# Altium integrated library TI Power Management Standard Voltage Regulator.IntLib: 214 symbols (part 3 of 7)
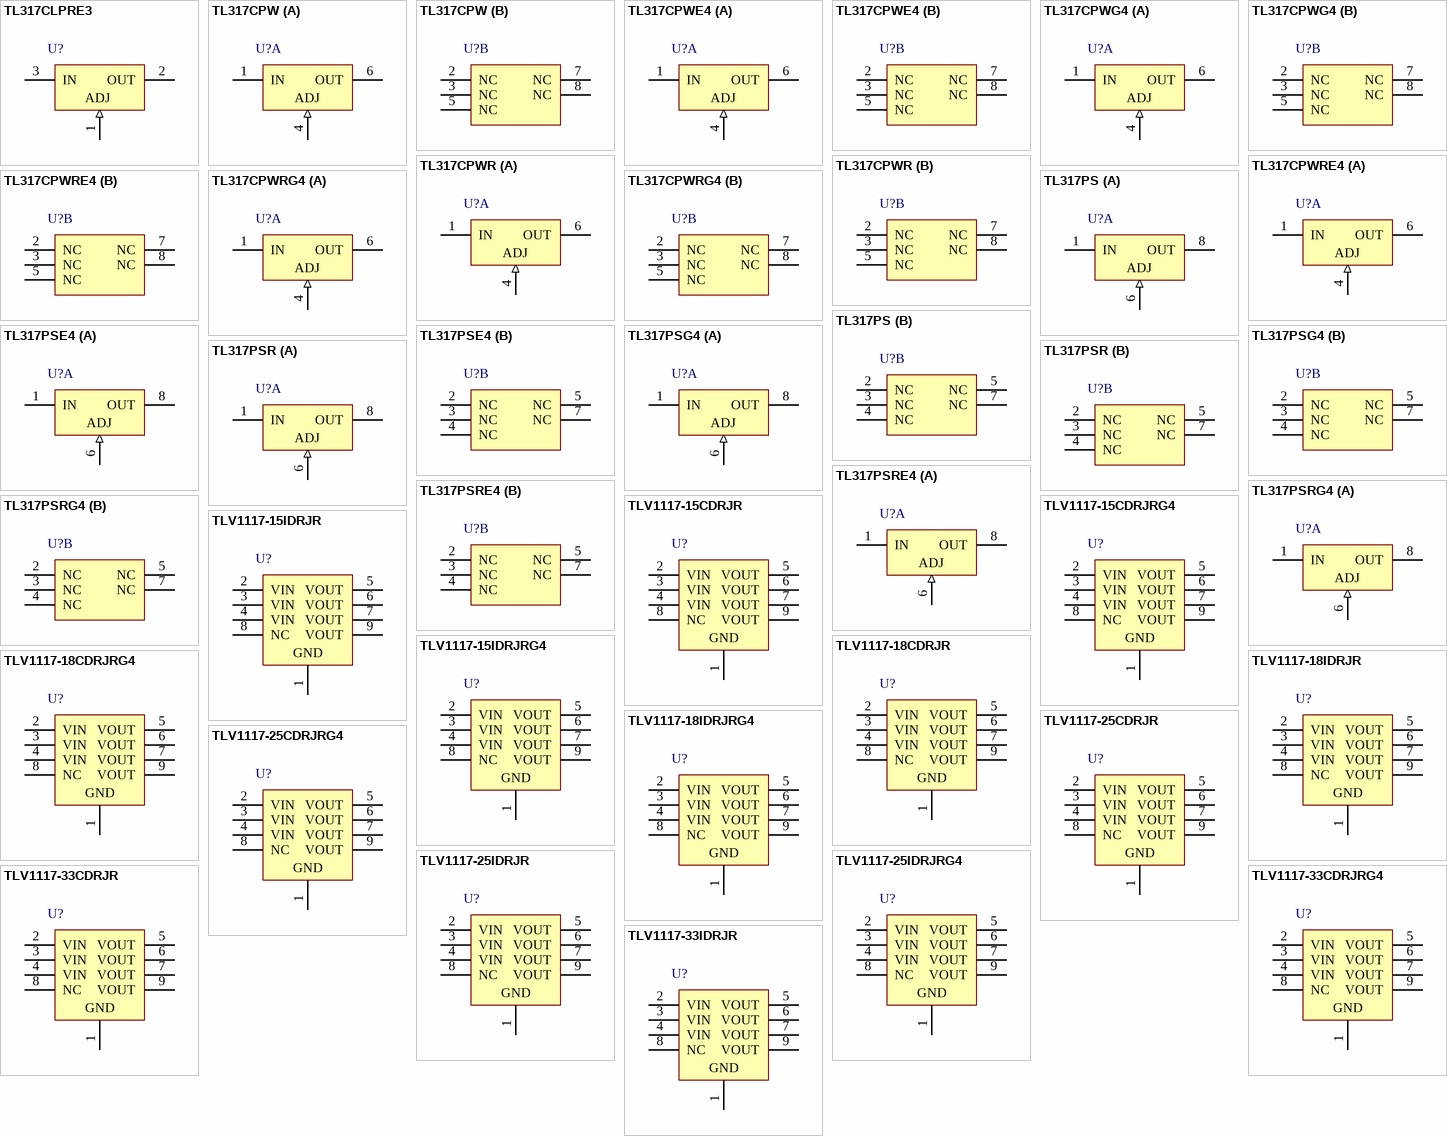
[diagram p8: symbols TL317CLPRE3 to TLV1117-33IDRJR]

## TL317CLPRE3
designator U?
Adjustable Regulator with 5 to 38 V Input and 1.2 to 32 V Output, 0 to 125 degC, 3-Pin TO-92 (LP), Pb-Free (RoHS); Manufacturer: Texas Instruments; PartNumber: TL317CLPRE3; Iout(Max)(A): 0.1; SubFamily: Single Channel LDO; Vin(Max)(V): 38; Vin(Min)(V): 5; Vout(Max)(V): 32; Vout(Min)(V): 1.2; DatasheetVersion: SLVS004H; PackageVersion: revC, Oct-2001; PackageReference: LP3; PackageDescription: Plastic Cylindrical Package, Formed Lead Option (TO-92); Supplier 1: Digi-Key; Supplier Part Number 1: TL317CLPRE3-ND; Supplier 2: Newark; Supplier Part Number 2: 70K5571; Supplier 3: Mouser; Supplier Part Number 3: 595-TL317CLPRE3; Eco-Plan: Pb-Free (RoHS); Mounting Technology: Through Hole; Code_JEDEC: TO-226-AA; ComponentLink1Description: Datasheet; ComponentLink1URL: http://www.ti.com/general/docs/lit/getliterature.tsp?genericPartNumber=TL317&fileType=pdf; ComponentLink2Description: Package Specification; ComponentLink2URL: http://www.ti.com/litv/pdf/msot002a; ComponentLink3Description: URL Link1; ComponentLink3URL: Samples URL:http://www.ti.com/product/tl317#samples
footprint LP3 (TO, Flat Index; 3 In-Line, Formed Axial Leads; Body Dia. 4.8mm; Leads 0.56 x 0.41 mm (max))
pins: 1 GND (in), 2 OUT (power), 3 IN (power)
text: ADJ

## TL317CPW
designator U?
Adjustable Regulator with 5 to 38 V Input and 1.2 to 32 V Output, 0 to 125 degC, 8-Pin TSSOP (PW), Green (RoHS & no Sb/Br); Manufacturer: Texas Instruments; PartNumber: TL317CPW; Iout(Max)(A): 0.1; SubFamily: Single Channel LDO; Vin(Max)(V): 38; Vin(Min)(V): 5; Vout(Max)(V): 32; Vout(Min)(V): 1.2; DatasheetVersion: SLVS004H; PackageVersion: revG, Feb-2011; PackageReference: PW8; PackageDescription: 8-Pin Plastic Thin Small Outline Package 3 x 4.4 mm Body ,0.65 mm Pitch; Supplier 1: Digi-Key; Supplier Part Number 1: TL317CPW-ND; Supplier 2: Newark; Supplier Part Number 2: 02H5502; Supplier 3: Mouser; Supplier Part Number 3: 595-TL317CPW; Eco-Plan: Green (RoHS & no Sb/Br); Mounting Technology: Surface Mount; Code_JEDEC: MO-153; ComponentLink1Description: Datasheet; ComponentLink1URL: http://www.ti.com/general/docs/lit/getliterature.tsp?genericPartNumber=TL317&fileType=pdf; ComponentLink2Description: Package Specification; ComponentLink2URL: http://www.ti.com/litv/pdf/mtss001d; ComponentLink3Description: URL Link1; ComponentLink3URL: Samples URL:http://www.ti.com/product/tl317#samples
footprint PW8_N (TSOP, 8-Leads, Body 3x4.4mm, Pitch 0.65mm, IPC Medium Density)
footprint PW8_L (TSOP, 8-Leads, Body 3x4.4mm, Pitch 0.65mm, IPC High Density)
footprint PW8_M (TSOP, 8-Leads, Body 3x4.4mm, Pitch 0.65mm, IPC Low Density)
part A pins: 1 IN (power), 4 ADJ (in), 6 OUT (power)
part B pins: 2 NC, 3 NC, 5 NC, 7 NC, 8 NC

## TL317CPWE4
designator U?
Adjustable Regulator with 5 to 38 V Input and 1.2 to 32 V Output, 0 to 125 degC, 8-Pin TSSOP (PW), Green (RoHS & no Sb/Br); Manufacturer: Texas Instruments; PartNumber: TL317CPWE4; Iout(Max)(A): 0.1; SubFamily: Single Channel LDO; Vin(Max)(V): 38; Vin(Min)(V): 5; Vout(Max)(V): 32; Vout(Min)(V): 1.2; DatasheetVersion: SLVS004H; PackageVersion: revG, Feb-2011; PackageReference: PW8; PackageDescription: 8-Pin Plastic Thin Small Outline Package 3 x 4.4 mm Body ,0.65 mm Pitch; Supplier 1: Digi-Key; Supplier Part Number 1: TL317CPWE4-ND; Supplier 2: Newark; Supplier Part Number 2: 33K7452; Supplier 3: Mouser; Supplier Part Number 3: 595-TL317CPWE4; Eco-Plan: Green (RoHS & no Sb/Br); Mounting Technology: Surface Mount; Code_JEDEC: MO-153; ComponentLink1Description: Datasheet; ComponentLink1URL: http://www.ti.com/general/docs/lit/getliterature.tsp?genericPartNumber=TL317&fileType=pdf; ComponentLink2Description: Package Specification; ComponentLink2URL: http://www.ti.com/litv/pdf/mtss001d; ComponentLink3Description: URL Link1; ComponentLink3URL: Samples URL:http://www.ti.com/product/tl317#samples
footprint PW8_N (TSOP, 8-Leads, Body 3x4.4mm, Pitch 0.65mm, IPC Medium Density)
footprint PW8_L (TSOP, 8-Leads, Body 3x4.4mm, Pitch 0.65mm, IPC High Density)
footprint PW8_M (TSOP, 8-Leads, Body 3x4.4mm, Pitch 0.65mm, IPC Low Density)
part A pins: 1 IN (power), 4 ADJ (in), 6 OUT (power)
part B pins: 2 NC, 3 NC, 5 NC, 7 NC, 8 NC

## TL317CPWG4
designator U?
Adjustable Regulator with 5 to 38 V Input and 1.2 to 32 V Output, 0 to 125 degC, 8-Pin TSSOP (PW), Green (RoHS & no Sb/Br); Manufacturer: Texas Instruments; PartNumber: TL317CPWG4; Iout(Max)(A): 0.1; SubFamily: Single Channel LDO; Vin(Max)(V): 38; Vin(Min)(V): 5; Vout(Max)(V): 32; Vout(Min)(V): 1.2; DatasheetVersion: SLVS004H; PackageVersion: revG, Feb-2011; PackageReference: PW8; PackageDescription: 8-Pin Plastic Thin Small Outline Package 3 x 4.4 mm Body ,0.65 mm Pitch; Supplier 1: Digi-Key; Supplier Part Number 1: TL317CPWG4-ND; Supplier 2: Newark; Supplier Part Number 2: 46M9109; Supplier 3: Mouser; Supplier Part Number 3: 595-TL317CPWG4; Eco-Plan: Green (RoHS & no Sb/Br); Mounting Technology: Surface Mount; Code_JEDEC: MO-153; ComponentLink1Description: Datasheet; ComponentLink1URL: http://www.ti.com/general/docs/lit/getliterature.tsp?genericPartNumber=TL317&fileType=pdf; ComponentLink2Description: Package Specification; ComponentLink2URL: http://www.ti.com/litv/pdf/mtss001d; ComponentLink3Description: URL Link1; ComponentLink3URL: Samples URL:http://www.ti.com/product/tl317#samples
footprint PW8_N (TSOP, 8-Leads, Body 3x4.4mm, Pitch 0.65mm, IPC Medium Density)
footprint PW8_L (TSOP, 8-Leads, Body 3x4.4mm, Pitch 0.65mm, IPC High Density)
footprint PW8_M (TSOP, 8-Leads, Body 3x4.4mm, Pitch 0.65mm, IPC Low Density)
part A pins: 1 IN (power), 4 ADJ (in), 6 OUT (power)
part B pins: 2 NC, 3 NC, 5 NC, 7 NC, 8 NC

## TL317CPWR
designator U?
Adjustable Regulator with 5 to 38 V Input and 1.2 to 32 V Output, 0 to 125 degC, 8-Pin TSSOP (PW), Green (RoHS & no Sb/Br); Manufacturer: Texas Instruments; PartNumber: TL317CPWR; Iout(Max)(A): 0.1; SubFamily: Single Channel LDO; Vin(Max)(V): 38; Vin(Min)(V): 5; Vout(Max)(V): 32; Vout(Min)(V): 1.2; DatasheetVersion: SLVS004H; PackageVersion: revG, Feb-2011; PackageReference: PW8; PackageDescription: 8-Pin Plastic Thin Small Outline Package 3 x 4.4 mm Body ,0.65 mm Pitch; Supplier 1: Digi-Key; Supplier Part Number 1: 296-13351-2-ND; Supplier 2: Digi-Key; Supplier Part Number 2: 296-13351-1-ND; Supplier 3: Digi-Key; Supplier Part Number 3: 296-13351-6-ND; Supplier 4: Newark; Supplier Part Number 4: 76C9224; Supplier 5: Mouser; Supplier Part Number 5: 595-TL317CPWR; Eco-Plan: Green (RoHS & no Sb/Br); Mounting Technology: Surface Mount; Code_JEDEC: MO-153; ComponentLink1Description: Datasheet; ComponentLink1URL: http://www.ti.com/general/docs/lit/getliterature.tsp?genericPartNumber=TL317&fileType=pdf; ComponentLink2Description: Package Specification; ComponentLink2URL: http://www.ti.com/litv/pdf/mtss001d; ComponentLink3Description: URL Link1; ComponentLink3URL: Samples URL:http://www.ti.com/product/tl317#samples
footprint PW8_N (TSOP, 8-Leads, Body 3x4.4mm, Pitch 0.65mm, IPC Medium Density)
footprint PW8_L (TSOP, 8-Leads, Body 3x4.4mm, Pitch 0.65mm, IPC High Density)
footprint PW8_M (TSOP, 8-Leads, Body 3x4.4mm, Pitch 0.65mm, IPC Low Density)
part A pins: 1 IN (power), 4 ADJ (in), 6 OUT (power)
part B pins: 2 NC, 3 NC, 5 NC, 7 NC, 8 NC

## TL317CPWRE4
designator U?
Adjustable Regulator with 5 to 38 V Input and 1.2 to 32 V Output, 0 to 125 degC, 8-Pin TSSOP (PW), Green (RoHS & no Sb/Br); Manufacturer: Texas Instruments; PartNumber: TL317CPWRE4; Iout(Max)(A): 0.1; SubFamily: Single Channel LDO; Vin(Max)(V): 38; Vin(Min)(V): 5; Vout(Max)(V): 32; Vout(Min)(V): 1.2; DatasheetVersion: SLVS004H; PackageVersion: revG, Feb-2011; PackageReference: PW8; PackageDescription: 8-Pin Plastic Thin Small Outline Package 3 x 4.4 mm Body ,0.65 mm Pitch; Supplier 1: Digi-Key; Supplier Part Number 1: TL317CPWRE4-ND; Supplier 2: Newark; Supplier Part Number 2: 33K7453; Supplier 3: Mouser; Supplier Part Number 3: 595-TL317CPWRE4; Eco-Plan: Green (RoHS & no Sb/Br); Mounting Technology: Surface Mount; Code_JEDEC: MO-153; ComponentLink1Description: Datasheet; ComponentLink1URL: http://www.ti.com/general/docs/lit/getliterature.tsp?genericPartNumber=TL317&fileType=pdf; ComponentLink2Description: Package Specification; ComponentLink2URL: http://www.ti.com/litv/pdf/mtss001d; ComponentLink3Description: URL Link1; ComponentLink3URL: Samples URL:http://www.ti.com/product/tl317#samples
footprint PW8_N (TSOP, 8-Leads, Body 3x4.4mm, Pitch 0.65mm, IPC Medium Density)
footprint PW8_L (TSOP, 8-Leads, Body 3x4.4mm, Pitch 0.65mm, IPC High Density)
footprint PW8_M (TSOP, 8-Leads, Body 3x4.4mm, Pitch 0.65mm, IPC Low Density)
part A pins: 1 IN (power), 4 ADJ (in), 6 OUT (power)
part B pins: 2 NC, 3 NC, 5 NC, 7 NC, 8 NC

## TL317CPWRG4
designator U?
Adjustable Regulator with 5 to 38 V Input and 1.2 to 32 V Output, 0 to 125 degC, 8-Pin TSSOP (PW), Green (RoHS & no Sb/Br); Manufacturer: Texas Instruments; PartNumber: TL317CPWRG4; Iout(Max)(A): 0.1; Vin(Max)(V): 38; Vin(Min)(V): 5; Vout(Max)(V): 32; Vout(Min)(V): 1.2; DatasheetVersion: SLVS004H; PackageVersion: revG, Feb-2011; PackageReference: PW8; PackageDescription: 8-Pin Plastic Thin Small Outline Package 3 x 4.4 mm Body ,0.65 mm Pitch; Supplier 1: Digi-Key; Supplier Part Number 1: TL317CPWRG4-ND; Supplier 2: Newark; Supplier Part Number 2: 46M9110; Supplier 3: Mouser; Supplier Part Number 3: 595-TL317CPWRG4; Eco-Plan: Green (RoHS & no Sb/Br); Mounting Technology: Surface Mount; Code_JEDEC: MO-153; ComponentLink1Description: Datasheet; ComponentLink1URL: http://www.ti.com/general/docs/lit/getliterature.tsp?genericPartNumber=TL317&fileType=pdf; ComponentLink2Description: Package Specification; ComponentLink2URL: http://www.ti.com/litv/pdf/mtss001d; ComponentLink3Description: URL Link1; ComponentLink3URL: Samples URL:http://www.ti.com/product/tl317#samples
footprint PW8_N (TSOP, 8-Leads, Body 3x4.4mm, Pitch 0.65mm, IPC Medium Density)
footprint PW8_L (TSOP, 8-Leads, Body 3x4.4mm, Pitch 0.65mm, IPC High Density)
footprint PW8_M (TSOP, 8-Leads, Body 3x4.4mm, Pitch 0.65mm, IPC Low Density)
part A pins: 1 IN (power), 4 ADJ (in), 6 OUT (power)
part B pins: 2 NC, 3 NC, 5 NC, 7 NC, 8 NC

## TL317PS
designator U?
Adjustable Regulator with 5 to 38 V Input and 1.2 to 32 V Output, 0 to 125 degC, 8-Pin SO (PS), Green (RoHS & no Sb/Br); Manufacturer: Texas Instruments; PartNumber: TL317PS; Iout(Max)(A): 0.1; Vin(Max)(V): 38; Vin(Min)(V): 5; Vout(Max)(V): 32; Vout(Min)(V): 1.2; DatasheetVersion: SLVS004H; PackageVersion: revC, Mar-2003; PackageReference: PS8; PackageDescription: 8-Pin Plastic Small Outline Package, 6.2 x 5.3 mm, Pitch 1.27 mm Pitch; Supplier 1: Digi-Key; Supplier Part Number 1: TL317PS-ND; Supplier 2: Newark; Supplier Part Number 2: 50R8020; Supplier 3: Mouser; Supplier Part Number 3: 595-TL317PS; Eco-Plan: Green (RoHS & no Sb/Br); Mounting Technology: Surface Mount; ComponentLink1Description: Datasheet; ComponentLink1URL: http://www.ti.com/general/docs/lit/getliterature.tsp?genericPartNumber=TL317&fileType=pdf; ComponentLink2Description: Package Specification; ComponentLink2URL: http://www.ti.com/litv/pdf/msop001a; ComponentLink3Description: URL Link1; ComponentLink3URL: Samples URL:http://www.ti.com/product/tl317#samples
footprint PS8_N (SOP, 8-Leads, Body 6.2x5.3mm, Pitch 1.27mm, IPC Medium Density)
footprint PS8_L (SOP, 8-Leads, Body 6.2x5.3mm, Pitch 1.27mm, IPC High Density)
footprint PS8_M (SOP, 8-Leads, Body 6.2x5.3mm, Pitch 1.27mm, IPC Low Density)
part A pins: 1 IN (power), 6 ADJ (in), 8 OUT (power)
part B pins: 2 NC, 3 NC, 4 NC, 5 NC, 7 NC

## TL317PSE4
designator U?
Adjustable Regulator with 5 to 38 V Input and 1.2 to 32 V Output, 0 to 125 degC, 8-Pin SO (PS), Green (RoHS & no Sb/Br); Manufacturer: Texas Instruments; PartNumber: TL317PSE4; Iout(Max)(A): 0.1; Vin(Max)(V): 38; Vin(Min)(V): 5; Vout(Max)(V): 32; Vout(Min)(V): 1.2; DatasheetVersion: SLVS004H; PackageVersion: revC, Mar-2003; PackageReference: PS8; PackageDescription: 8-Pin Plastic Small Outline Package, 6.2 x 5.3 mm, Pitch 1.27 mm Pitch; Supplier 1: Digi-Key; Supplier Part Number 1: TL317PSE4-ND; Supplier 2: Mouser; Supplier Part Number 2: 595-TL317PSE4; Eco-Plan: Green (RoHS & no Sb/Br); Mounting Technology: Surface Mount; ComponentLink1Description: Datasheet; ComponentLink1URL: http://www.ti.com/general/docs/lit/getliterature.tsp?genericPartNumber=TL317&fileType=pdf; ComponentLink2Description: Package Specification; ComponentLink2URL: http://www.ti.com/litv/pdf/msop001a; ComponentLink3Description: URL Link1; ComponentLink3URL: Samples URL:http://www.ti.com/product/tl317#samples
footprint PS8_N (SOP, 8-Leads, Body 6.2x5.3mm, Pitch 1.27mm, IPC Medium Density)
footprint PS8_L (SOP, 8-Leads, Body 6.2x5.3mm, Pitch 1.27mm, IPC High Density)
footprint PS8_M (SOP, 8-Leads, Body 6.2x5.3mm, Pitch 1.27mm, IPC Low Density)
part A pins: 1 IN (power), 6 ADJ (in), 8 OUT (power)
part B pins: 2 NC, 3 NC, 4 NC, 5 NC, 7 NC

## TL317PSG4
designator U?
Adjustable Regulator with 5 to 38 V Input and 1.2 to 32 V Output, 0 to 125 degC, 8-Pin SO (PS), Green (RoHS & no Sb/Br); Manufacturer: Texas Instruments; PartNumber: TL317PSG4; Iout(Max)(A): 0.1; Vin(Max)(V): 38; Vin(Min)(V): 5; Vout(Max)(V): 32; Vout(Min)(V): 1.2; DatasheetVersion: SLVS004H; PackageVersion: revC, Mar-2003; PackageReference: PS8; PackageDescription: 8-Pin Plastic Small Outline Package, 6.2 x 5.3 mm, Pitch 1.27 mm Pitch; Supplier 1: Digi-Key; Supplier Part Number 1: TL317PSG4-ND; Supplier 2: Mouser; Supplier Part Number 2: 595-TL317PSG4; Eco-Plan: Green (RoHS & no Sb/Br); Mounting Technology: Surface Mount; ComponentLink1Description: Datasheet; ComponentLink1URL: http://www.ti.com/general/docs/lit/getliterature.tsp?genericPartNumber=TL317&fileType=pdf; ComponentLink2Description: Package Specification; ComponentLink2URL: http://www.ti.com/litv/pdf/msop001a; ComponentLink3Description: URL Link1; ComponentLink3URL: Samples URL:http://www.ti.com/product/tl317#samples
footprint PS8_N (SOP, 8-Leads, Body 6.2x5.3mm, Pitch 1.27mm, IPC Medium Density)
footprint PS8_L (SOP, 8-Leads, Body 6.2x5.3mm, Pitch 1.27mm, IPC High Density)
footprint PS8_M (SOP, 8-Leads, Body 6.2x5.3mm, Pitch 1.27mm, IPC Low Density)
part A pins: 1 IN (power), 6 ADJ (in), 8 OUT (power)
part B pins: 2 NC, 3 NC, 4 NC, 5 NC, 7 NC

## TL317PSR
designator U?
Adjustable Regulator with 5 to 38 V Input and 1.2 to 32 V Output, 0 to 125 degC, 8-Pin SO (PS), Green (RoHS & no Sb/Br); Manufacturer: Texas Instruments; PartNumber: TL317PSR; Iout(Max)(A): 0.1; Vin(Max)(V): 38; Vin(Min)(V): 5; Vout(Max)(V): 32; Vout(Min)(V): 1.2; DatasheetVersion: SLVS004H; PackageVersion: revC, Mar-2003; PackageReference: PS8; PackageDescription: 8-Pin Plastic Small Outline Package, 6.2 x 5.3 mm, Pitch 1.27 mm Pitch; Supplier 1: Digi-Key; Supplier Part Number 1: 296-29156-2-ND; Supplier 2: Digi-Key; Supplier Part Number 2: 296-29156-1-ND; Supplier 3: Digi-Key; Supplier Part Number 3: 296-29156-6-ND; Supplier 4: Newark; Supplier Part Number 4: 50R8023; Supplier 5: Mouser; Supplier Part Number 5: 595-TL317PSR; Eco-Plan: Green (RoHS & no Sb/Br); Mounting Technology: Surface Mount; ComponentLink1Description: Datasheet; ComponentLink1URL: http://www.ti.com/general/docs/lit/getliterature.tsp?genericPartNumber=TL317&fileType=pdf; ComponentLink2Description: Package Specification; ComponentLink2URL: http://www.ti.com/litv/pdf/msop001a; ComponentLink3Description: URL Link1; ComponentLink3URL: Samples URL:http://www.ti.com/product/tl317#samples
footprint PS8_N (SOP, 8-Leads, Body 6.2x5.3mm, Pitch 1.27mm, IPC Medium Density)
footprint PS8_L (SOP, 8-Leads, Body 6.2x5.3mm, Pitch 1.27mm, IPC High Density)
footprint PS8_M (SOP, 8-Leads, Body 6.2x5.3mm, Pitch 1.27mm, IPC Low Density)
part A pins: 1 IN (power), 6 ADJ (in), 8 OUT (power)
part B pins: 2 NC, 3 NC, 4 NC, 5 NC, 7 NC

## TL317PSRE4
designator U?
Adjustable Regulator with 5 to 38 V Input and 1.2 to 32 V Output, 0 to 125 degC, 8-Pin SO (PS), Green (RoHS & no Sb/Br); Manufacturer: Texas Instruments; PartNumber: TL317PSRE4; Iout(Max)(A): 0.1; Vin(Max)(V): 38; Vin(Min)(V): 5; Vout(Max)(V): 32; Vout(Min)(V): 1.2; DatasheetVersion: SLVS004H; PackageVersion: revC, Mar-2003; PackageReference: PS8; PackageDescription: 8-Pin Plastic Small Outline Package, 6.2 x 5.3 mm, Pitch 1.27 mm Pitch; Supplier 1: Digi-Key; Supplier Part Number 1: TL317PSRE4-ND; Supplier 2: Mouser; Supplier Part Number 2: 595-TL317PSRE4; Eco-Plan: Green (RoHS & no Sb/Br); Mounting Technology: Surface Mount; ComponentLink1Description: Datasheet; ComponentLink1URL: http://www.ti.com/general/docs/lit/getliterature.tsp?genericPartNumber=TL317&fileType=pdf; ComponentLink2Description: Package Specification; ComponentLink2URL: http://www.ti.com/litv/pdf/msop001a; ComponentLink3Description: URL Link1; ComponentLink3URL: Samples URL:http://www.ti.com/product/tl317#samples
footprint PS8_N (SOP, 8-Leads, Body 6.2x5.3mm, Pitch 1.27mm, IPC Medium Density)
footprint PS8_L (SOP, 8-Leads, Body 6.2x5.3mm, Pitch 1.27mm, IPC High Density)
footprint PS8_M (SOP, 8-Leads, Body 6.2x5.3mm, Pitch 1.27mm, IPC Low Density)
part A pins: 1 IN (power), 6 ADJ (in), 8 OUT (power)
part B pins: 2 NC, 3 NC, 4 NC, 5 NC, 7 NC

## TL317PSRG4
designator U?
Adjustable Regulator with 5 to 38 V Input and 1.2 to 32 V Output, 0 to 125 degC, 8-Pin SO (PS), Green (RoHS & no Sb/Br); Manufacturer: Texas Instruments; PartNumber: TL317PSRG4; Iout(Max)(A): 0.1; Vin(Max)(V): 38; Vin(Min)(V): 5; Vout(Max)(V): 32; Vout(Min)(V): 1.2; DatasheetVersion: SLVS004H; PackageVersion: revC, Mar-2003; PackageReference: PS8; PackageDescription: 8-Pin Plastic Small Outline Package, 6.2 x 5.3 mm, Pitch 1.27 mm Pitch; Supplier 1: Digi-Key; Supplier Part Number 1: TL317PSRG4-ND; Supplier 2: Mouser; Supplier Part Number 2: 595-TL317PSRG4; Eco-Plan: Green (RoHS & no Sb/Br); Mounting Technology: Surface Mount; ComponentLink1Description: Datasheet; ComponentLink1URL: http://www.ti.com/general/docs/lit/getliterature.tsp?genericPartNumber=TL317&fileType=pdf; ComponentLink2Description: Package Specification; ComponentLink2URL: http://www.ti.com/litv/pdf/msop001a; ComponentLink3Description: URL Link1; ComponentLink3URL: Samples URL:http://www.ti.com/product/tl317#samples
footprint PS8_N (SOP, 8-Leads, Body 6.2x5.3mm, Pitch 1.27mm, IPC Medium Density)
footprint PS8_L (SOP, 8-Leads, Body 6.2x5.3mm, Pitch 1.27mm, IPC High Density)
footprint PS8_M (SOP, 8-Leads, Body 6.2x5.3mm, Pitch 1.27mm, IPC Low Density)
part A pins: 1 IN (power), 6 ADJ (in), 8 OUT (power)
part B pins: 2 NC, 3 NC, 4 NC, 5 NC, 7 NC

## TLV1117-15CDRJR
designator U?
LDO with 2.9 to 15 V Input and 1.5 V Output, 0 to 125 degC, 8-Pin SON (DRJ), Green (RoHS & no Sb/Br); Manufacturer: Texas Instruments; PartNumber: TLV1117-15CDRJR; Iout(Max)(A): 0.8; Iq(Typ)(mA): 5; Vin(Max)(V): 15; Vin(Min)(V): 2.9; Vout(Max)(V): 1.5; DatasheetVersion: SLVS561J; PackageVersion: revC, Dec-2010; PackageReference: DRJ8-3000X2200TP; PackageDescription: 8-Pin Plastic Small Outline No-Lead, 4 x 4 x 0.8 mm Body, 0.8 mm Pitch, Exposed Pad; Supplier 1: Digi-Key; Supplier Part Number 1: 296-23023-2-ND; Supplier 2: Digi-Key; Supplier Part Number 2: 296-23023-1-ND; Supplier 3: Digi-Key; Supplier Part Number 3: 296-23023-6-ND; Supplier 4: Newark; Supplier Part Number 4: 80K3269; Supplier 5: Mouser; Supplier Part Number 5: 595-TLV1117-15CDRJR; Eco-Plan: Green (RoHS & no Sb/Br); Vout(Min)(V): 1.5; Mounting Technology: Surface Mount; ComponentLink1Description: Datasheet; ComponentLink1URL: http://www.ti.com/general/docs/lit/getliterature.tsp?genericPartNumber=TLV1117-15&fileType=pdf; ComponentLink2Description: Package Specification; ComponentLink2URL: http://www.ti.com/litv/pdf/mpds153b; ComponentLink3Description: URL Link1; ComponentLink3URL: Samples URL:http://www.ti.com/product/tlv1117-15#samples
footprint DRJ8-3000X2200TP (SON, 8-Leads, Body 4x4mm, Pitch 0.8mm, Thermal Pad 3x2.2mm, TI Recommended)
pins: 1 GND (power), 2 VIN (power), 3 VIN (power), 4 VIN (power), 5 VOUT (power), 6 VOUT (power), 7 VOUT (power), 8 NC, 9 VOUT (power)

## TLV1117-15CDRJRG4
designator U?
LDO with 2.9 to 15 V Input and 1.5 V Output, 0 to 125 degC, 8-Pin SON (DRJ), Green (RoHS & no Sb/Br); Manufacturer: Texas Instruments; PartNumber: TLV1117-15CDRJRG4; Iout(Max)(A): 0.8; Iq(Typ)(mA): 5; Vin(Max)(V): 15; Vin(Min)(V): 2.9; Vout(Max)(V): 1.5; DatasheetVersion: SLVS561J; PackageVersion: revC, Dec-2010; PackageReference: DRJ8-3000X2200TP; PackageDescription: 8-Pin Plastic Small Outline No-Lead, 4 x 4 x 0.8 mm Body, 0.8 mm Pitch, Exposed Pad; Supplier 1: Digi-Key; Supplier Part Number 1: TLV1117-15CDRJRG4-ND; Supplier 2: Newark; Supplier Part Number 2: 84K3768; Supplier 3: Mouser; Supplier Part Number 3: 595-TLV111715CDRJRG4; Eco-Plan: Green (RoHS & no Sb/Br); Vout(Min)(V): 1.5; Mounting Technology: Surface Mount; ComponentLink1Description: Datasheet; ComponentLink1URL: http://www.ti.com/general/docs/lit/getliterature.tsp?genericPartNumber=TLV1117-15&fileType=pdf; ComponentLink2Description: Package Specification; ComponentLink2URL: http://www.ti.com/litv/pdf/mpds153b; ComponentLink3Description: URL Link1; ComponentLink3URL: Samples URL:http://www.ti.com/product/tlv1117-15#samples
footprint DRJ8-3000X2200TP (SON, 8-Leads, Body 4x4mm, Pitch 0.8mm, Thermal Pad 3x2.2mm, TI Recommended)
pins: 1 GND (power), 2 VIN (power), 3 VIN (power), 4 VIN (power), 5 VOUT (power), 6 VOUT (power), 7 VOUT (power), 8 NC, 9 VOUT (power)

## TLV1117-15IDRJR
designator U?
LDO with 2.9 to 15 V Input and 1.5 V Output, -40 to 125 degC, 8-Pin SON (DRJ), Green (RoHS & no Sb/Br); Manufacturer: Texas Instruments; PartNumber: TLV1117-15IDRJR; Iout(Max)(A): 0.8; Iq(Typ)(mA): 5; SubFamily: Single Channel LDO; Vin(Max)(V): 15; Vin(Min)(V): 2.9; Vout(Max)(V): 1.5; DatasheetVersion: SLVS561J; PackageVersion: revC, Dec-2010; PackageReference: DRJ8-3000X2200TP; PackageDescription: 8-Pin Plastic Small Outline No-Lead, 4 x 4 x 0.8 mm Body, 0.8 mm Pitch, Exposed Pad; Supplier 1: Digi-Key; Supplier Part Number 1: TLV1117-15IDRJR-ND; Supplier 2: Newark; Supplier Part Number 2: 80K3271; Supplier 3: Mouser; Supplier Part Number 3: 595-TLV1117-15IDRJR; Eco-Plan: Green (RoHS & no Sb/Br); Vout(Min)(V): 1.5; Mounting Technology: Surface Mount; ComponentLink1Description: Datasheet; ComponentLink1URL: http://www.ti.com/general/docs/lit/getliterature.tsp?genericPartNumber=TLV1117-15&fileType=pdf; ComponentLink2Description: Package Specification; ComponentLink2URL: http://www.ti.com/litv/pdf/mpds153b; ComponentLink3Description: URL Link1; ComponentLink3URL: Samples URL:http://www.ti.com/product/tlv1117-15#samples
footprint DRJ8-3000X2200TP (SON, 8-Leads, Body 4x4mm, Pitch 0.8mm, Thermal Pad 3x2.2mm, TI Recommended)
pins: 1 GND (power), 2 VIN (power), 3 VIN (power), 4 VIN (power), 5 VOUT (power), 6 VOUT (power), 7 VOUT (power), 8 NC, 9 VOUT (power)

## TLV1117-15IDRJRG4
designator U?
LDO with 2.9 to 15 V Input and 1.5 V Output, -40 to 125 degC, 8-Pin SON (DRJ), Green (RoHS & no Sb/Br); Manufacturer: Texas Instruments; PartNumber: TLV1117-15IDRJRG4; Iout(Max)(A): 0.8; Iq(Typ)(mA): 5; SubFamily: Single Channel LDO; Vin(Max)(V): 15; Vin(Min)(V): 2.9; Vout(Max)(V): 1.5; DatasheetVersion: SLVS561J; PackageVersion: revC, Dec-2010; PackageReference: DRJ8-3000X2200TP; PackageDescription: 8-Pin Plastic Small Outline No-Lead, 4 x 4 x 0.8 mm Body, 0.8 mm Pitch, Exposed Pad; Supplier 1: Digi-Key; Supplier Part Number 1: TLV1117-15IDRJRG4-ND; Supplier 2: Newark; Supplier Part Number 2: 84K3770; Supplier 3: Mouser; Supplier Part Number 3: 595-TLV111715IDRJRG4; Eco-Plan: Green (RoHS & no Sb/Br); Vout(Min)(V): 1.5; Mounting Technology: Surface Mount; ComponentLink1Description: Datasheet; ComponentLink1URL: http://www.ti.com/general/docs/lit/getliterature.tsp?genericPartNumber=TLV1117-15&fileType=pdf; ComponentLink2Description: Package Specification; ComponentLink2URL: http://www.ti.com/litv/pdf/mpds153b; ComponentLink3Description: URL Link1; ComponentLink3URL: Samples URL:http://www.ti.com/product/tlv1117-15#samples
footprint DRJ8-3000X2200TP (SON, 8-Leads, Body 4x4mm, Pitch 0.8mm, Thermal Pad 3x2.2mm, TI Recommended)
pins: 1 GND (power), 2 VIN (power), 3 VIN (power), 4 VIN (power), 5 VOUT (power), 6 VOUT (power), 7 VOUT (power), 8 NC, 9 VOUT (power)

## TLV1117-18CDRJR
designator U?
LDO with 3.2 to 15 V Input and 1.8 V Output, 0 to 125 degC, 8-Pin SON (DRJ), Green (RoHS & no Sb/Br); Manufacturer: Texas Instruments; PartNumber: TLV1117-18CDRJR; Iout(Max)(A): 0.8; Iq(Typ)(mA): 5; Vdo(Typ)(V): 1.2; Vin(Max)(V): 15; Vin(Min)(V): 3.2; Vout(Max)(V): 1.8; DatasheetVersion: SLVS561J; PackageVersion: revC, Dec-2010; PackageReference: DRJ8-3000X2200TP; PackageDescription: 8-Pin Plastic Small Outline No-Lead, 4 x 4 x 0.8 mm Body, 0.8 mm Pitch, Exposed Pad; Supplier 1: Digi-Key; Supplier Part Number 1: 296-24129-2-ND; Supplier 2: Digi-Key; Supplier Part Number 2: 296-24129-1-ND; Supplier 3: Digi-Key; Supplier Part Number 3: 296-24129-6-ND; Supplier 4: Newark; Supplier Part Number 4: 80K3273; Supplier 5: Mouser; Supplier Part Number 5: 595-TLV1117-18CDRJR; Eco-Plan: Green (RoHS & no Sb/Br); Vout(Min)(V): 1.8; Mounting Technology: Surface Mount; ComponentLink1Description: Datasheet; ComponentLink1URL: http://www.ti.com/general/docs/lit/getliterature.tsp?genericPartNumber=TLV1117-18&fileType=pdf; ComponentLink2Description: Package Specification; ComponentLink2URL: http://www.ti.com/litv/pdf/mpds153b; ComponentLink3Description: URL Link1; ComponentLink3URL: Samples URL:http://www.ti.com/product/tlv1117-18#samples
footprint DRJ8-3000X2200TP (SON, 8-Leads, Body 4x4mm, Pitch 0.8mm, Thermal Pad 3x2.2mm, TI Recommended)
pins: 1 GND (power), 2 VIN (power), 3 VIN (power), 4 VIN (power), 5 VOUT (power), 6 VOUT (power), 7 VOUT (power), 8 NC, 9 VOUT (power)

## TLV1117-18CDRJRG4
designator U?
LDO with 3.2 to 15 V Input and 1.8 V Output, 0 to 125 degC, 8-Pin SON (DRJ), Green (RoHS & no Sb/Br); Manufacturer: Texas Instruments; PartNumber: TLV1117-18CDRJRG4; Iout(Max)(A): 0.8; Iq(Typ)(mA): 5; Vdo(Typ)(V): 1.2; Vin(Max)(V): 15; Vin(Min)(V): 3.2; Vout(Max)(V): 1.8; DatasheetVersion: SLVS561J; PackageVersion: revC, Dec-2010; PackageReference: DRJ8-3000X2200TP; PackageDescription: 8-Pin Plastic Small Outline No-Lead, 4 x 4 x 0.8 mm Body, 0.8 mm Pitch, Exposed Pad; Supplier 1: Digi-Key; Supplier Part Number 1: TLV1117-18CDRJRG4-ND; Supplier 2: Newark; Supplier Part Number 2: 84K3772; Supplier 3: Mouser; Supplier Part Number 3: 595-TLV111718CDRJRG4; Eco-Plan: Green (RoHS & no Sb/Br); Vout(Min)(V): 1.8; Mounting Technology: Surface Mount; ComponentLink1Description: Datasheet; ComponentLink1URL: http://www.ti.com/general/docs/lit/getliterature.tsp?genericPartNumber=TLV1117-18&fileType=pdf; ComponentLink2Description: Package Specification; ComponentLink2URL: http://www.ti.com/litv/pdf/mpds153b; ComponentLink3Description: URL Link1; ComponentLink3URL: Samples URL:http://www.ti.com/product/tlv1117-18#samples
footprint DRJ8-3000X2200TP (SON, 8-Leads, Body 4x4mm, Pitch 0.8mm, Thermal Pad 3x2.2mm, TI Recommended)
pins: 1 GND (power), 2 VIN (power), 3 VIN (power), 4 VIN (power), 5 VOUT (power), 6 VOUT (power), 7 VOUT (power), 8 NC, 9 VOUT (power)

## TLV1117-18IDRJR
designator U?
LDO with 3.2 to 15 V Input and 1.8 V Output, -40 to 125 degC, 8-Pin SON (DRJ), Green (RoHS & no Sb/Br); Manufacturer: Texas Instruments; PartNumber: TLV1117-18IDRJR; Iout(Max)(A): 0.8; Iq(Typ)(mA): 5; SubFamily: Single Channel LDO; Vdo(Typ)(V): 1.2; Vin(Max)(V): 15; Vin(Min)(V): 3.2; Vout(Max)(V): 1.8; DatasheetVersion: SLVS561J; PackageVersion: revC, Dec-2010; PackageReference: DRJ8-3000X2200TP; PackageDescription: 8-Pin Plastic Small Outline No-Lead, 4 x 4 x 0.8 mm Body, 0.8 mm Pitch, Exposed Pad; Supplier 1: Digi-Key; Supplier Part Number 1: TLV1117-18IDRJR-ND; Supplier 2: Newark; Supplier Part Number 2: 80K3274; Supplier 3: Mouser; Supplier Part Number 3: 595-TLV1117-18IDRJR; Eco-Plan: Green (RoHS & no Sb/Br); Vout(Min)(V): 1.8; Mounting Technology: Surface Mount; ComponentLink1Description: Datasheet; ComponentLink1URL: http://www.ti.com/general/docs/lit/getliterature.tsp?genericPartNumber=TLV1117-18&fileType=pdf; ComponentLink2Description: Package Specification; ComponentLink2URL: http://www.ti.com/litv/pdf/mpds153b; ComponentLink3Description: URL Link1; ComponentLink3URL: Samples URL:http://www.ti.com/product/tlv1117-18#samples
footprint DRJ8-3000X2200TP (SON, 8-Leads, Body 4x4mm, Pitch 0.8mm, Thermal Pad 3x2.2mm, TI Recommended)
pins: 1 GND (power), 2 VIN (power), 3 VIN (power), 4 VIN (power), 5 VOUT (power), 6 VOUT (power), 7 VOUT (power), 8 NC, 9 VOUT (power)

## TLV1117-18IDRJRG4
designator U?
LDO with 3.2 to 15 V Input and 1.8 V Output, -40 to 125 degC, 8-Pin SON (DRJ), Green (RoHS & no Sb/Br); Manufacturer: Texas Instruments; PartNumber: TLV1117-18IDRJRG4; Iout(Max)(A): 0.8; Iq(Typ)(mA): 5; Vin(Max)(V): 15; Vin(Min)(V): 3.2; Vout(Max)(V): 1.8; DatasheetVersion: SLVS561J; PackageVersion: revC, Dec-2010; PackageReference: DRJ8-3000X2200TP; PackageDescription: 8-Pin Plastic Small Outline No-Lead, 4 x 4 x 0.8 mm Body, 0.8 mm Pitch, Exposed Pad; Supplier 1: Digi-Key; Supplier Part Number 1: TLV1117-18IDRJRG4-ND; Supplier 2: Newark; Supplier Part Number 2: 84K3775; Supplier 3: Mouser; Supplier Part Number 3: 595-TLV111718IDRJRG4; Eco-Plan: Green (RoHS & no Sb/Br); Vout(Min)(V): 1.8; Mounting Technology: Surface Mount; ComponentLink1Description: Datasheet; ComponentLink1URL: http://www.ti.com/general/docs/lit/getliterature.tsp?genericPartNumber=TLV1117-18&fileType=pdf; ComponentLink2Description: Package Specification; ComponentLink2URL: http://www.ti.com/litv/pdf/mpds153b; ComponentLink3Description: URL Link1; ComponentLink3URL: Samples URL:http://www.ti.com/product/tlv1117-18#samples
footprint DRJ8-3000X2200TP (SON, 8-Leads, Body 4x4mm, Pitch 0.8mm, Thermal Pad 3x2.2mm, TI Recommended)
pins: 1 GND (power), 2 VIN (power), 3 VIN (power), 4 VIN (power), 5 VOUT (power), 6 VOUT (power), 7 VOUT (power), 8 NC, 9 VOUT (power)

## TLV1117-25CDRJR
designator U?
LDO with 3.9 to 15 V Input and 2.5 V Output, 0 to 125 degC, 8-Pin SON (DRJ), Green (RoHS & no Sb/Br); Manufacturer: Texas Instruments; PartNumber: TLV1117-25CDRJR; Iout(Max)(A): 0.8; Iq(Typ)(mA): 5; Vin(Max)(V): 15; Vin(Min)(V): 3.9; Vout(Max)(V): 2.5; DatasheetVersion: SLVS561J; PackageVersion: revC, Dec-2010; PackageReference: DRJ8-3000X2200TP; PackageDescription: 8-Pin Plastic Small Outline No-Lead, 4 x 4 x 0.8 mm Body, 0.8 mm Pitch, Exposed Pad; Supplier 1: Digi-Key; Supplier Part Number 1: TLV1117-25CDRJR-ND; Supplier 2: Newark; Supplier Part Number 2: 80K3276; Supplier 3: Mouser; Supplier Part Number 3: 595-TLV1117-25CDRJR; Eco-Plan: Green (RoHS & no Sb/Br); Vout(Min)(V): 2.5; Mounting Technology: Surface Mount; ComponentLink1Description: Datasheet; ComponentLink1URL: http://www.ti.com/general/docs/lit/getliterature.tsp?genericPartNumber=TLV1117-25&fileType=pdf; ComponentLink2Description: Package Specification; ComponentLink2URL: http://www.ti.com/litv/pdf/mpds153b; ComponentLink3Description: URL Link1; ComponentLink3URL: Samples URL:http://www.ti.com/product/tlv1117-25#samples
footprint DRJ8-3000X2200TP (SON, 8-Leads, Body 4x4mm, Pitch 0.8mm, Thermal Pad 3x2.2mm, TI Recommended)
pins: 1 GND (power), 2 VIN (power), 3 VIN (power), 4 VIN (power), 5 VOUT (power), 6 VOUT (power), 7 VOUT (power), 8 NC, 9 VOUT (power)

## TLV1117-25CDRJRG4
designator U?
LDO with 3.9 to 15 V Input and 2.5 V Output, 0 to 125 degC, 8-Pin SON (DRJ), Green (RoHS & no Sb/Br); Manufacturer: Texas Instruments; PartNumber: TLV1117-25CDRJRG4; Iout(Max)(A): 0.8; Iq(Typ)(mA): 5; Vin(Max)(V): 15; Vin(Min)(V): 3.9; Vout(Max)(V): 2.5; DatasheetVersion: SLVS561J; PackageVersion: revC, Dec-2010; PackageReference: DRJ8-3000X2200TP; PackageDescription: 8-Pin Plastic Small Outline No-Lead, 4 x 4 x 0.8 mm Body, 0.8 mm Pitch, Exposed Pad; Supplier 1: Digi-Key; Supplier Part Number 1: TLV1117-25CDRJRG4-ND; Supplier 2: Newark; Supplier Part Number 2: 84K3777; Supplier 3: Mouser; Supplier Part Number 3: 595-TLV111725CDRJRG4; Eco-Plan: Green (RoHS & no Sb/Br); Vout(Min)(V): 2.5; Mounting Technology: Surface Mount; ComponentLink1Description: Datasheet; ComponentLink1URL: http://www.ti.com/general/docs/lit/getliterature.tsp?genericPartNumber=TLV1117-25&fileType=pdf; ComponentLink2Description: Package Specification; ComponentLink2URL: http://www.ti.com/litv/pdf/mpds153b; ComponentLink3Description: URL Link1; ComponentLink3URL: Samples URL:http://www.ti.com/product/tlv1117-25#samples
footprint DRJ8-3000X2200TP (SON, 8-Leads, Body 4x4mm, Pitch 0.8mm, Thermal Pad 3x2.2mm, TI Recommended)
pins: 1 GND (power), 2 VIN (power), 3 VIN (power), 4 VIN (power), 5 VOUT (power), 6 VOUT (power), 7 VOUT (power), 8 NC, 9 VOUT (power)

## TLV1117-25IDRJR
designator U?
LDO with 3.9 to 15 V Input and 2.5 V Output, -40 to 125 degC, 8-Pin SON (DRJ), Green (RoHS & no Sb/Br); Manufacturer: Texas Instruments; PartNumber: TLV1117-25IDRJR; Iout(Max)(A): 0.8; Iq(Typ)(mA): 5; SubFamily: Single Channel LDO; Vin(Max)(V): 15; Vin(Min)(V): 3.9; Vout(Max)(V): 2.5; DatasheetVersion: SLVS561J; PackageVersion: revC, Dec-2010; PackageReference: DRJ8-3000X2200TP; PackageDescription: 8-Pin Plastic Small Outline No-Lead, 4 x 4 x 0.8 mm Body, 0.8 mm Pitch, Exposed Pad; Supplier 1: Digi-Key; Supplier Part Number 1: TLV1117-25IDRJR-ND; Supplier 2: Newark; Supplier Part Number 2: 80K3277; Supplier 3: Mouser; Supplier Part Number 3: 595-TLV1117-25IDRJR; Eco-Plan: Green (RoHS & no Sb/Br); Vout(Min)(V): 2.5; Mounting Technology: Surface Mount; ComponentLink1Description: Datasheet; ComponentLink1URL: http://www.ti.com/general/docs/lit/getliterature.tsp?genericPartNumber=TLV1117-25&fileType=pdf; ComponentLink2Description: Package Specification; ComponentLink2URL: http://www.ti.com/litv/pdf/mpds153b; ComponentLink3Description: URL Link1; ComponentLink3URL: Samples URL:http://www.ti.com/product/tlv1117-25#samples
footprint DRJ8-3000X2200TP (SON, 8-Leads, Body 4x4mm, Pitch 0.8mm, Thermal Pad 3x2.2mm, TI Recommended)
pins: 1 GND (power), 2 VIN (power), 3 VIN (power), 4 VIN (power), 5 VOUT (power), 6 VOUT (power), 7 VOUT (power), 8 NC, 9 VOUT (power)

## TLV1117-25IDRJRG4
designator U?
LDO with 3.9 to 15 V Input and 2.5 V Output, -40 to 125 degC, 8-Pin SON (DRJ), Green (RoHS & no Sb/Br); Manufacturer: Texas Instruments; PartNumber: TLV1117-25IDRJRG4; Iout(Max)(A): 0.8; Iq(Typ)(mA): 5; SubFamily: Single Channel LDO; Vin(Max)(V): 15; Vin(Min)(V): 3.9; Vout(Max)(V): 2.5; DatasheetVersion: SLVS561J; PackageVersion: revC, Dec-2010; PackageReference: DRJ8-3000X2200TP; PackageDescription: 8-Pin Plastic Small Outline No-Lead, 4 x 4 x 0.8 mm Body, 0.8 mm Pitch, Exposed Pad; Supplier 1: Digi-Key; Supplier Part Number 1: TLV1117-25IDRJRG4-ND; Supplier 2: Newark; Supplier Part Number 2: 84K3780; Supplier 3: Mouser; Supplier Part Number 3: 595-TLV111725IDRJRG4; Eco-Plan: Green (RoHS & no Sb/Br); Vout(Min)(V): 2.5; Mounting Technology: Surface Mount; ComponentLink1Description: Datasheet; ComponentLink1URL: http://www.ti.com/general/docs/lit/getliterature.tsp?genericPartNumber=TLV1117-25&fileType=pdf; ComponentLink2Description: Package Specification; ComponentLink2URL: http://www.ti.com/litv/pdf/mpds153b; ComponentLink3Description: URL Link1; ComponentLink3URL: Samples URL:http://www.ti.com/product/tlv1117-25#samples
footprint DRJ8-3000X2200TP (SON, 8-Leads, Body 4x4mm, Pitch 0.8mm, Thermal Pad 3x2.2mm, TI Recommended)
pins: 1 GND (power), 2 VIN (power), 3 VIN (power), 4 VIN (power), 5 VOUT (power), 6 VOUT (power), 7 VOUT (power), 8 NC, 9 VOUT (power)

## TLV1117-33CDRJR
designator U?
LDO with 4.7 to 15 V Input and 3.3 V Output, 0 to 125 degC, 8-Pin SON (DRJ), Green (RoHS & no Sb/Br); Manufacturer: Texas Instruments; PartNumber: TLV1117-33CDRJR; Iout(Max)(A): 0.8; Iq(Typ)(mA): 5; SubFamily: Single Channel LDO; Vin(Max)(V): 15; Vin(Min)(V): 4.7; Vout(Max)(V): 3.3; DatasheetVersion: SLVS561J; PackageVersion: revC, Dec-2010; PackageReference: DRJ8-3000X2200TP; PackageDescription: 8-Pin Plastic Small Outline No-Lead, 4 x 4 x 0.8 mm Body, 0.8 mm Pitch, Exposed Pad; Supplier 1: Digi-Key; Supplier Part Number 1: 296-19749-2-ND; Supplier 2: Digi-Key; Supplier Part Number 2: 296-19749-1-ND; Supplier 3: Digi-Key; Supplier Part Number 3: 296-19749-6-ND; Supplier 4: Newark; Supplier Part Number 4: 80K3278; Supplier 5: Mouser; Supplier Part Number 5: 595-TLV1117-33CDRJR; Eco-Plan: Green (RoHS & no Sb/Br); Vout(Min)(V): 3.3; Mounting Technology: Surface Mount; ComponentLink1Description: Datasheet; ComponentLink1URL: http://www.ti.com/general/docs/lit/getliterature.tsp?genericPartNumber=TLV1117-33&fileType=pdf; ComponentLink2Description: Package Specification; ComponentLink2URL: http://www.ti.com/litv/pdf/mpds153b; ComponentLink3Description: URL Link1; ComponentLink3URL: Samples URL:http://www.ti.com/product/tlv1117-33#samples
footprint DRJ8-3000X2200TP (SON, 8-Leads, Body 4x4mm, Pitch 0.8mm, Thermal Pad 3x2.2mm, TI Recommended)
pins: 1 GND (power), 2 VIN (power), 3 VIN (power), 4 VIN (power), 5 VOUT (power), 6 VOUT (power), 7 VOUT (power), 8 NC, 9 VOUT (power)

## TLV1117-33CDRJRG4
designator U?
LDO with 4.7 to 15 V Input and 3.3 V Output, 0 to 125 degC, 8-Pin SON (DRJ), Green (RoHS & no Sb/Br); Manufacturer: Texas Instruments; PartNumber: TLV1117-33CDRJRG4; Iout(Max)(A): 0.8; Iq(Typ)(mA): 5; SubFamily: Single Output LDO; Vin(Max)(V): 15; Vin(Min)(V): 4.7; Vout(Max)(V): 3.3; DatasheetVersion: SLVS561J; PackageVersion: revC, Dec-2010; PackageReference: DRJ8-3000X2200TP; PackageDescription: 8-Pin Plastic Small Outline No-Lead, 4 x 4 x 0.8 mm Body, 0.8 mm Pitch, Exposed Pad; Supplier 1: Digi-Key; Supplier Part Number 1: TLV1117-33CDRJRG4-ND; Supplier 2: Newark; Supplier Part Number 2: 84K3782; Supplier 3: Mouser; Supplier Part Number 3: 595-TLV111733CDRJRG4; Eco-Plan: Green (RoHS & no Sb/Br); Vout(Min)(V): 3.3; Mounting Technology: Surface Mount; ComponentLink1Description: Datasheet; ComponentLink1URL: http://www.ti.com/general/docs/lit/getliterature.tsp?genericPartNumber=TLV1117-33&fileType=pdf; ComponentLink2Description: Package Specification; ComponentLink2URL: http://www.ti.com/litv/pdf/mpds153b; ComponentLink3Description: URL Link1; ComponentLink3URL: Samples URL:http://www.ti.com/product/tlv1117-33#samples
footprint DRJ8-3000X2200TP (SON, 8-Leads, Body 4x4mm, Pitch 0.8mm, Thermal Pad 3x2.2mm, TI Recommended)
pins: 1 GND (power), 2 VIN (power), 3 VIN (power), 4 VIN (power), 5 VOUT (power), 6 VOUT (power), 7 VOUT (power), 8 NC, 9 VOUT (power)

## TLV1117-33IDRJR
designator U?
LDO with 4.7 to 15 V Input and 3.3 V Output, -40 to 125 degC, 8-Pin SON (DRJ), Green (RoHS & no Sb/Br); Manufacturer: Texas Instruments; PartNumber: TLV1117-33IDRJR; Iout(Max)(A): 0.8; Iq(Typ)(mA): 5; Vin(Max)(V): 15; Vin(Min)(V): 4.7; Vout(Max)(V): 3.3; DatasheetVersion: SLVS561J; PackageVersion: revC, Dec-2010; PackageReference: DRJ8-3000X2200TP; PackageDescription: 8-Pin Plastic Small Outline No-Lead, 4 x 4 x 0.8 mm Body, 0.8 mm Pitch, Exposed Pad; Supplier 1: Digi-Key; Supplier Part Number 1: 296-32364-2-ND; Supplier 2: Digi-Key; Supplier Part Number 2: 296-32364-1-ND; Supplier 3: Digi-Key; Supplier Part Number 3: 296-32364-6-ND; Supplier 4: Newark; Supplier Part Number 4: 80K3280; Supplier 5: Mouser; Supplier Part Number 5: 595-TLV1117-33IDRJR; Eco-Plan: Green (RoHS & no Sb/Br); Vout(Min)(V): 3.3; Mounting Technology: Surface Mount; ComponentLink1Description: Datasheet; ComponentLink1URL: http://www.ti.com/general/docs/lit/getliterature.tsp?genericPartNumber=TLV1117-33&fileType=pdf; ComponentLink2Description: Package Specification; ComponentLink2URL: http://www.ti.com/litv/pdf/mpds153b; ComponentLink3Description: URL Link1; ComponentLink3URL: Samples URL:http://www.ti.com/product/tlv1117-33#samples
footprint DRJ8-3000X2200TP (SON, 8-Leads, Body 4x4mm, Pitch 0.8mm, Thermal Pad 3x2.2mm, TI Recommended)
pins: 1 GND (power), 2 VIN (power), 3 VIN (power), 4 VIN (power), 5 VOUT (power), 6 VOUT (power), 7 VOUT (power), 8 NC, 9 VOUT (power)

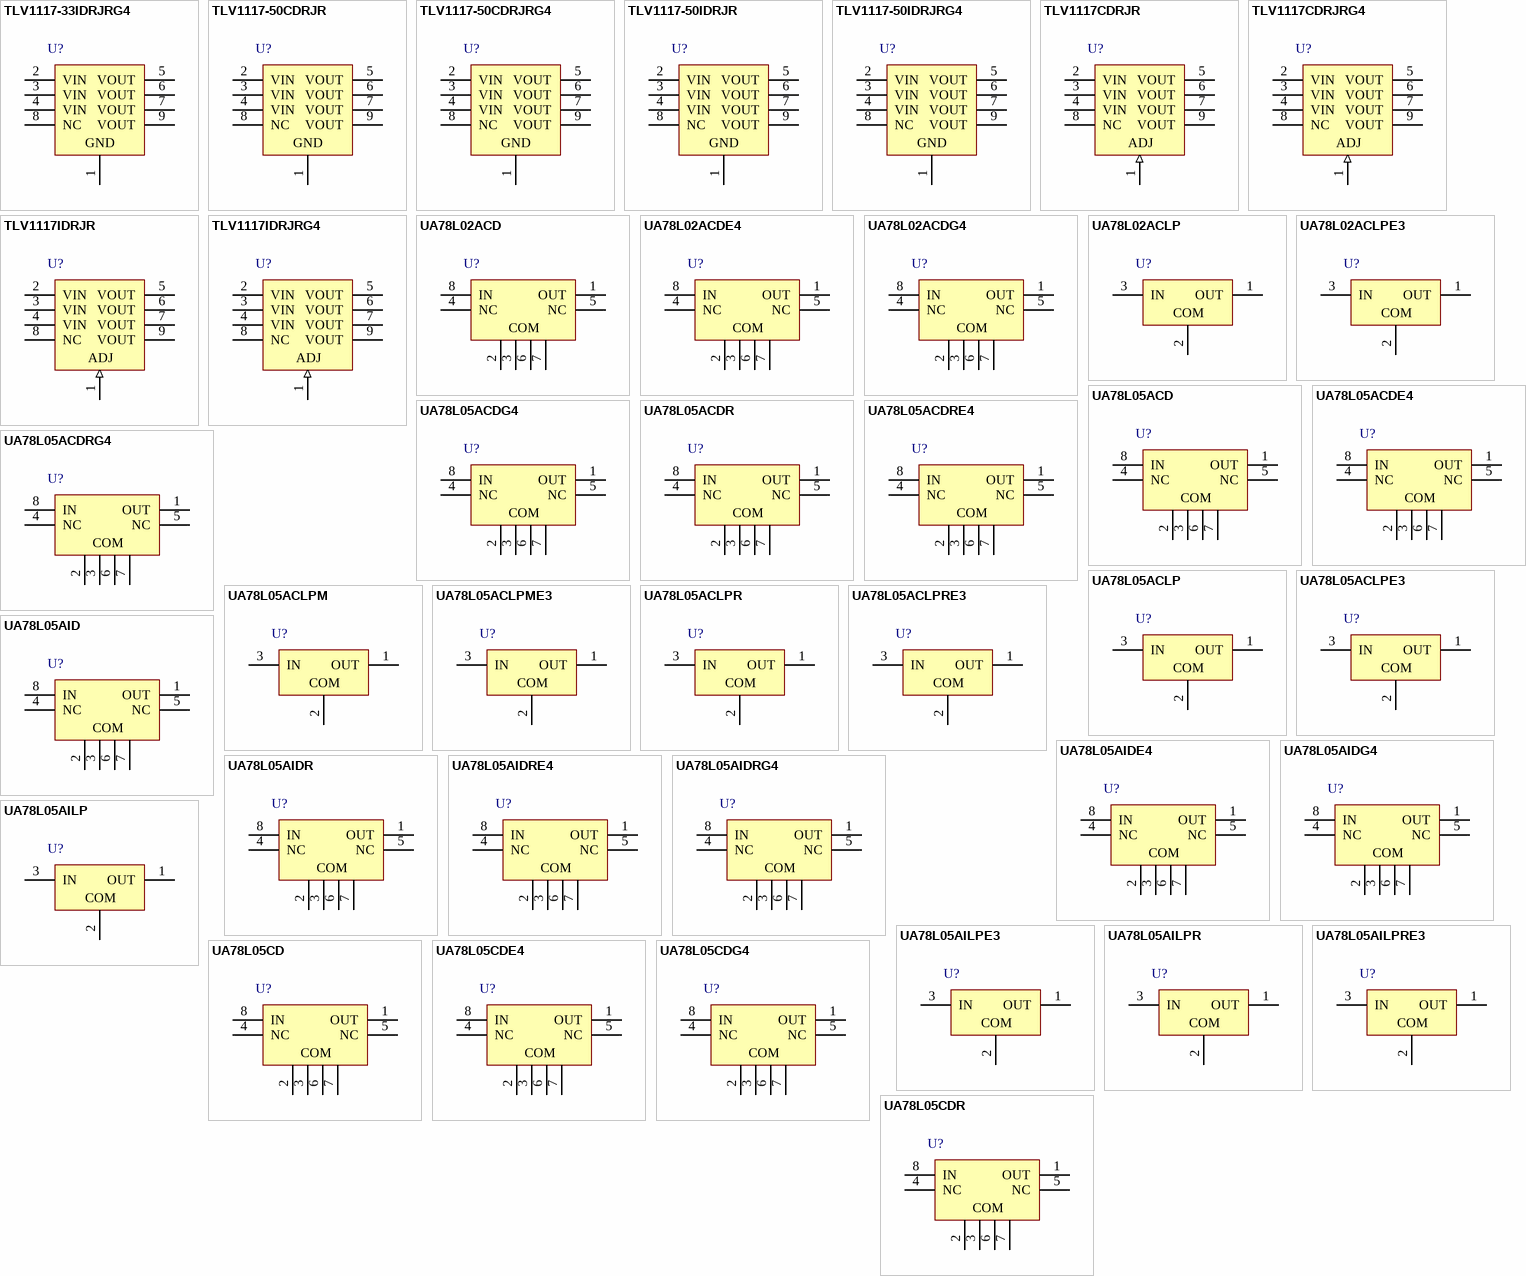
[diagram p3: symbols TLV1117-33IDRJRG4 to UA78L05CDR]

## TLV1117-33IDRJRG4
designator U?
LDO with 4.7 to 15 V Input and 3.3 V Output, -40 to 125 degC, 8-Pin SON (DRJ), Green (RoHS & no Sb/Br); Manufacturer: Texas Instruments; PartNumber: TLV1117-33IDRJRG4; Iout(Max)(A): 0.8; Iq(Typ)(mA): 5; Vin(Max)(V): 15; Vin(Min)(V): 4.7; Vout(Max)(V): 3.3; DatasheetVersion: SLVS561J; PackageVersion: revC, Dec-2010; PackageReference: DRJ8-3000X2200TP; PackageDescription: 8-Pin Plastic Small Outline No-Lead, 4 x 4 x 0.8 mm Body, 0.8 mm Pitch, Exposed Pad; Supplier 1: Digi-Key; Supplier Part Number 1: TLV1117-33IDRJRG4-ND; Supplier 2: Newark; Supplier Part Number 2: 84K3784; Supplier 3: Mouser; Supplier Part Number 3: 595-TLV111733IDRJRG4; Eco-Plan: Green (RoHS & no Sb/Br); Vout(Min)(V): 3.3; Mounting Technology: Surface Mount; ComponentLink1Description: Datasheet; ComponentLink1URL: http://www.ti.com/general/docs/lit/getliterature.tsp?genericPartNumber=TLV1117-33&fileType=pdf; ComponentLink2Description: Package Specification; ComponentLink2URL: http://www.ti.com/litv/pdf/mpds153b; ComponentLink3Description: URL Link1; ComponentLink3URL: Samples URL:http://www.ti.com/product/tlv1117-33#samples
footprint DRJ8-3000X2200TP (SON, 8-Leads, Body 4x4mm, Pitch 0.8mm, Thermal Pad 3x2.2mm, TI Recommended)
pins: 1 GND (power), 2 VIN (power), 3 VIN (power), 4 VIN (power), 5 VOUT (power), 6 VOUT (power), 7 VOUT (power), 8 NC, 9 VOUT (power)

## TLV1117-50CDRJR
designator U?
LDO with 6.4 to 15 V Input and 5 V Output, 0 to 125 degC, 8-Pin SON (DRJ), Green (RoHS & no Sb/Br); Manufacturer: Texas Instruments; PartNumber: TLV1117-50CDRJR; Iout(Max)(A): 0.8; Iq(Typ)(mA): 5; Vdo(Typ)(V): 1.2; Vin(Max)(V): 15; Vin(Min)(V): 6.4; DatasheetVersion: SLVS561J; PackageVersion: revC, Dec-2010; PackageReference: DRJ8-3000X2200TP; PackageDescription: 8-Pin Plastic Small Outline No-Lead, 4 x 4 x 0.8 mm Body, 0.8 mm Pitch, Exposed Pad; Supplier 1: Digi-Key; Supplier Part Number 1: 296-19663-2-ND; Supplier 2: Digi-Key; Supplier Part Number 2: 296-19663-1-ND; Supplier 3: Digi-Key; Supplier Part Number 3: 296-19663-6-ND; Supplier 4: Newark; Supplier Part Number 4: 80K3282; Supplier 5: Mouser; Supplier Part Number 5: 595-TLV1117-50CDRJR; Eco-Plan: Green (RoHS & no Sb/Br); Vout(Max)(V): 5; Vout(Min)(V): 5; Mounting Technology: Surface Mount; ComponentLink1Description: Datasheet; ComponentLink1URL: http://www.ti.com/general/docs/lit/getliterature.tsp?genericPartNumber=TLV1117-50&fileType=pdf; ComponentLink2Description: Package Specification; ComponentLink2URL: http://www.ti.com/litv/pdf/mpds153b; ComponentLink3Description: URL Link1; ComponentLink3URL: Samples URL:http://www.ti.com/product/tlv1117-50#samples
footprint DRJ8-3000X2200TP (SON, 8-Leads, Body 4x4mm, Pitch 0.8mm, Thermal Pad 3x2.2mm, TI Recommended)
pins: 1 ADJ/GND (power), 2 VIN (power), 3 VIN (power), 4 VIN (power), 5 VOUT (power), 6 VOUT (power), 7 VOUT (power), 8 NC, 9 VOUT (power)
text: GND

## TLV1117-50CDRJRG4
designator U?
LDO with 6.4 to 15 V Input and 5 V Output, 0 to 125 degC, 8-Pin SON (DRJ), Green (RoHS & no Sb/Br); Manufacturer: Texas Instruments; PartNumber: TLV1117-50CDRJRG4; Iout(Max)(A): 0.8; Iq(Typ)(mA): 5; Vdo(Typ)(V): 1.2; Vin(Max)(V): 15; Vin(Min)(V): 6.4; DatasheetVersion: SLVS561J; PackageVersion: revC, Dec-2010; PackageReference: DRJ8-3000X2200TP; PackageDescription: 8-Pin Plastic Small Outline No-Lead, 4 x 4 x 0.8 mm Body, 0.8 mm Pitch, Exposed Pad; Supplier 1: Digi-Key; Supplier Part Number 1: TLV1117-50CDRJRG4-ND; Supplier 2: Newark; Supplier Part Number 2: 84K3785; Supplier 3: Mouser; Supplier Part Number 3: 595-TLV111750CDRJRG4; Eco-Plan: Green (RoHS & no Sb/Br); Vout(Max)(V): 5; Vout(Min)(V): 5; Mounting Technology: Surface Mount; ComponentLink1Description: Datasheet; ComponentLink1URL: http://www.ti.com/general/docs/lit/getliterature.tsp?genericPartNumber=TLV1117-50&fileType=pdf; ComponentLink2Description: Package Specification; ComponentLink2URL: http://www.ti.com/litv/pdf/mpds153b; ComponentLink3Description: URL Link1; ComponentLink3URL: Samples URL:http://www.ti.com/product/tlv1117-50#samples
footprint DRJ8-3000X2200TP (SON, 8-Leads, Body 4x4mm, Pitch 0.8mm, Thermal Pad 3x2.2mm, TI Recommended)
pins: 1 ADJ/GND (power), 2 VIN (power), 3 VIN (power), 4 VIN (power), 5 VOUT (power), 6 VOUT (power), 7 VOUT (power), 8 NC, 9 VOUT (power)
text: GND

## TLV1117-50IDRJR
designator U?
LDO with 6.4 to 15 V Input and 5 V Output, -40 to 125 degC, 8-Pin SON (DRJ), Green (RoHS & no Sb/Br); Manufacturer: Texas Instruments; PartNumber: TLV1117-50IDRJR; Iout(Max)(A): 0.8; Iq(Typ)(mA): 5; SubFamily: Single Channel LDO; Vin(Max)(V): 15; Vin(Min)(V): 6.4; DatasheetVersion: SLVS561J; PackageVersion: revC, Dec-2010; PackageReference: DRJ8-3000X2200TP; PackageDescription: 8-Pin Plastic Small Outline No-Lead, 4 x 4 x 0.8 mm Body, 0.8 mm Pitch, Exposed Pad; Supplier 1: Digi-Key; Supplier Part Number 1: 296-21116-2-ND; Supplier 2: Digi-Key; Supplier Part Number 2: 296-21116-1-ND; Supplier 3: Digi-Key; Supplier Part Number 3: 296-21116-6-ND; Supplier 4: Newark; Supplier Part Number 4: 80K3285; Supplier 5: Mouser; Supplier Part Number 5: 595-TLV1117-50IDRJR; Eco-Plan: Green (RoHS & no Sb/Br); Vout(Max)(V): 5; Vout(Min)(V): 5; Mounting Technology: Surface Mount; ComponentLink1Description: Datasheet; ComponentLink1URL: http://www.ti.com/general/docs/lit/getliterature.tsp?genericPartNumber=TLV1117-50&fileType=pdf; ComponentLink2Description: Package Specification; ComponentLink2URL: http://www.ti.com/litv/pdf/mpds153b; ComponentLink3Description: URL Link1; ComponentLink3URL: Samples URL:http://www.ti.com/product/tlv1117-50#samples
footprint DRJ8-3000X2200TP (SON, 8-Leads, Body 4x4mm, Pitch 0.8mm, Thermal Pad 3x2.2mm, TI Recommended)
pins: 1 ADJ/GND (power), 2 VIN (power), 3 VIN (power), 4 VIN (power), 5 VOUT (power), 6 VOUT (power), 7 VOUT (power), 8 NC, 9 VOUT (power)
text: GND

## TLV1117-50IDRJRG4
designator U?
LDO with 6.4 to 15 V Input and 5 V Output, -40 to 125 degC, 8-Pin SON (DRJ), Green (RoHS & no Sb/Br); Manufacturer: Texas Instruments; PartNumber: TLV1117-50IDRJRG4; Iout(Max)(A): 0.8; Iq(Typ)(mA): 5; SubFamily: Single Channel LDO; Vin(Max)(V): 15; Vin(Min)(V): 6.4; DatasheetVersion: SLVS561J; PackageVersion: revC, Dec-2010; PackageReference: DRJ8-3000X2200TP; PackageDescription: 8-Pin Plastic Small Outline No-Lead, 4 x 4 x 0.8 mm Body, 0.8 mm Pitch, Exposed Pad; Supplier 1: Digi-Key; Supplier Part Number 1: TLV1117-50IDRJRG4-ND; Supplier 2: Newark; Supplier Part Number 2: 84K3787; Supplier 3: Mouser; Supplier Part Number 3: 595-TLV111750IDRJRG4; Eco-Plan: Green (RoHS & no Sb/Br); Vout(Max)(V): 5; Vout(Min)(V): 5; Mounting Technology: Surface Mount; ComponentLink1Description: Datasheet; ComponentLink1URL: http://www.ti.com/general/docs/lit/getliterature.tsp?genericPartNumber=TLV1117-50&fileType=pdf; ComponentLink2Description: Package Specification; ComponentLink2URL: http://www.ti.com/litv/pdf/mpds153b; ComponentLink3Description: URL Link1; ComponentLink3URL: Samples URL:http://www.ti.com/product/tlv1117-50#samples
footprint DRJ8-3000X2200TP (SON, 8-Leads, Body 4x4mm, Pitch 0.8mm, Thermal Pad 3x2.2mm, TI Recommended)
pins: 1 ADJ/GND (power), 2 VIN (power), 3 VIN (power), 4 VIN (power), 5 VOUT (power), 6 VOUT (power), 7 VOUT (power), 8 NC, 9 VOUT (power)
text: GND

## TLV1117CDRJR
designator U?
LDO with 2.7 to 15 V Input and 1.25 to 13.7 V Output, 0 to 125 degC, 8-Pin SON (DRJ), Green (RoHS & no Sb/Br); Manufacturer: Texas Instruments; PartNumber: TLV1117CDRJR; Iout(Max)(A): 0.8; Iq(Typ)(mA): 5; Vin(Max)(V): 15; Vin(Min)(V): 2.7; Vout(Max)(V): 13.7; Vout(Min)(V): 1.25; DatasheetVersion: SLVS561J; PackageVersion: revC, Dec-2010; PackageReference: DRJ8-3000X2200TP; PackageDescription: 8-Pin Plastic Small Outline No-Lead, 4 x 4 x 0.8 mm Body, 0.8 mm Pitch, Exposed Pad; Supplier 1: Digi-Key; Supplier Part Number 1: 296-19515-2-ND; Supplier 2: Digi-Key; Supplier Part Number 2: 296-19515-1-ND; Supplier 3: Digi-Key; Supplier Part Number 3: 296-19515-6-ND; Supplier 4: Newark; Supplier Part Number 4: 80K3286; Supplier 5: Mouser; Supplier Part Number 5: 595-TLV1117CDRJR; Eco-Plan: Green (RoHS & no Sb/Br); Mounting Technology: Surface Mount; ComponentLink1Description: Datasheet; ComponentLink1URL: http://www.ti.com/general/docs/lit/getliterature.tsp?genericPartNumber=TLV1117&fileType=pdf; ComponentLink2Description: Package Specification; ComponentLink2URL: http://www.ti.com/litv/pdf/mpds153b; ComponentLink3Description: URL Link1; ComponentLink3URL: Samples URL:http://www.ti.com/product/tlv1117#samples
footprint DRJ8-3000X2200TP (SON, 8-Leads, Body 4x4mm, Pitch 0.8mm, Thermal Pad 3x2.2mm, TI Recommended)
pins: 1 ADJ (in), 2 VIN (power), 3 VIN (power), 4 VIN (power), 5 VOUT (power), 6 VOUT (power), 7 VOUT (power), 8 NC, 9 VOUT (power)